# Altium footprint library PcbLib1.PcbLib: 6 footprints
Each footprint in its own frame and in the unit in brackets; x right, y up, seen from the top. Pads: shape width x height; smd on the part's side, far side on the other; paste and mask are expansions set on the pad; w line width, h text height; cw(c..) or ccw(c..) is an arc to the next point about the centre after c.
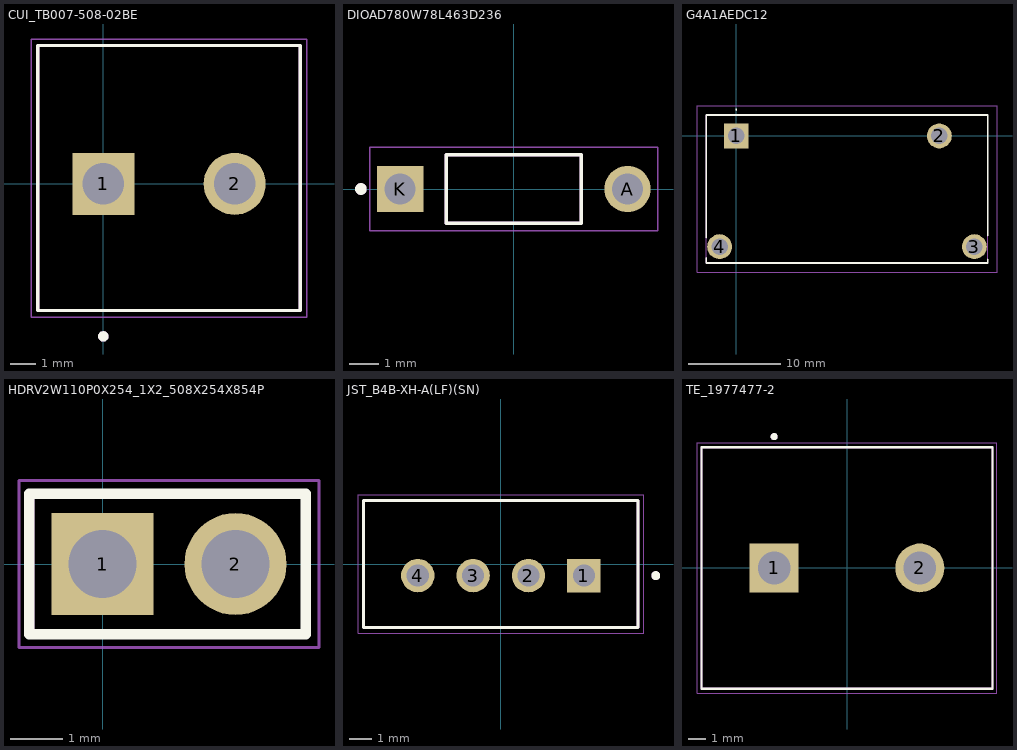
[diagram p0: the footprints below, top view; thin cyan lines are the x and y axes]

## CUI_TB007-508-02BE [mm]
pads (2):
  rect 2.4x2.4 / inner round 2.4 / far side rect 2.4x2.4 hole 1.6: 1(0,0)
  round 2.4 hole 1.6: 2(5.08,0)
Top Overlay:
  circle w0.2: c0,-5.9 r0.1
  lines w0.127: -2.54,-4.9 -2.54,5.35 7.62,5.35 7.62,-4.9 -2.54,-4.9
Mechanical 13:
  circle w0.2: c0,-5.9 r0.1
  lines w0.127: -2.54,-4.9 -2.54,5.35 7.62,5.35 7.62,-4.9 -2.54,-4.9
Mechanical 15:
  lines w0.05: -2.79,-5.15 7.87,-5.15 7.87,5.6 -2.79,5.6 -2.79,-5.15
3D body "step_temp.STEP": height 14, standoff -3.7, extent -2.886,-5.043 7.874,5.207

## DIOAD780W78L463D236 [mm]
pads (2):
  round 1.59 hole 1.06: A(3.905,0)
  rect 1.59x1.59 / inner round 1.59 / far side rect 1.59x1.59 hole 1.06: K(-3.905,0)
Top Overlay:
  circle w0.2: c-5.25,0 r0.1
  lines w0.127: -2.318,-1.18 -2.318,1.18 2.318,1.18 2.318,-1.18 -2.318,-1.18
Mechanical 13:
  circle w0.2: c-5.25,0 r0.1
  lines w0.127: -2.318,-1.18 -2.318,1.18 2.318,1.18 2.318,-1.18 -2.318,-1.18
Mechanical 15:
  lines w0.05: -4.949,-1.43 4.949,-1.43 4.949,1.43 -4.949,1.43 -4.949,-1.43
3D body "step_temp.STEP": height 2.7, standoff -21.19, extent -5.573,-1.35 5.573,1.35

## G4A1AEDC12 [mm]
pads (4):
  rect 2.7x2.7 hole 1.8: 1(0,0)
  round 2.7 hole 1.8: 2(22,0) 3(25.8,-12) 4(-1.8,-12)
Top Overlay:
  lines w0.1: 0,2.8 ccw(c0,2.85) 0,2.9 ccw(c0,2.85) 0,2.8
  lines w0.2: -3.25,-13.2 -3.25,-13.75 27.25,-13.75 27.25,-13.4 ; -3.25,-11 -3.25,2.25 27.25,2.25 27.25,-10.8
Mechanical 15:
  lines w0.1: -3.25,-13.75 -3.25,2.25 27.25,2.25 27.25,-13.75 -3.25,-13.75
Mechanical 20:
  lines w0.1: -4.25,-14.75 -4.25,3.25 28.25,3.25 28.25,-14.75 -4.25,-14.75

## HDRV2W110P0X254_1X2_508X254X854P [mm]
pads (2):
  rect 1.95x1.95 / inner round 1.95 / far side rect 1.95x1.95 hole 1.3: 1(0,0)
  round 1.95 hole 1.3: 2(2.54,0)
Top Overlay:
  lines w0.2: -1.397,-1.345 -1.397,1.345 3.885,1.345 3.885,-1.345 -1.345,-1.345
Mechanical 15:
  lines w0.1: -1.345,-1.345 3.885,-1.345 3.885,1.345 -1.345,1.345 -1.345,-1.345
Mechanical 20:
  lines w0.05: -1.595,-1.595 4.135,-1.595 4.135,1.595 -1.595,1.595 -1.595,-1.595

## JST_B4B-XH-A(LF)(SN) [mm]
height 7
pads (4):
  rect 1.508x1.508 / inner round 1.508 / far side rect 1.508x1.508 hole 1: 1(3.75,-0.525)
  round 1.508 hole 1: 2(1.25,-0.525) 3(-1.25,-0.525) 4(-3.75,-0.525)
Top Overlay:
  circle w0.2: c7,-0.525 r0.1
  lines w0.127: -6.2,-2.875 6.2,-2.875 6.2,2.875 -6.2,2.875 -6.2,-2.875
Mechanical 13:
  circle w0.2: c7,-0.525 r0.1
  lines w0.127: -6.2,-2.875 6.2,-2.875 6.2,2.875 -6.2,2.875 -6.2,-2.875
Mechanical 15:
  lines w0.05: -6.45,-3.125 6.45,-3.125 6.45,3.125 -6.45,3.125 -6.45,-3.125
3D body "step_temp.STEP": height 7, standoff -3.4, extent -6.2,-2.875 6.2,2.875

## TE_1977477-2 [mm]
pads (2):
  rect 2.775x2.775 / inner round 2.775 / far side rect 2.775x2.775 hole 1.85: 1(-4.13,0)
  round 2.775 hole 1.85: 2(4.13,0)
Top Overlay:
  circle w0.2: c-4.13,7.45 r0.1
  lines w0.127: -8.26,-6.85 -8.26,6.85 8.26,6.85 8.26,-6.85 -8.26,-6.85
Mechanical 13:
  circle w0.2: c-4.13,7.45 r0.1
  lines w0.127: -8.26,-6.85 -8.26,6.85 8.26,6.85 8.26,-6.85 -8.26,-6.85
Mechanical 15:
  lines w0.05: -8.51,-7.1 8.51,-7.1 8.51,7.1 -8.51,7.1 -8.51,-7.1
3D body "step_temp.STEP": height 14.8, standoff -5, extent -9.15,-6.85 8.25,6.85